# EAGLE library part MCP1404 (library myLib)
8-SOIC MCP1404-E/SN
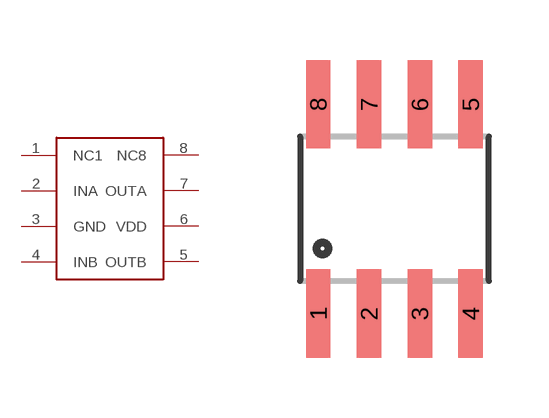
[diagram p3: symbol with the pads of SO08; footprint SO08]

Designator prefix -

## MCP1404  [SO08]
1  NC1
2  INA
3  GND
4  INB
5  OUTB
6  VDD
7  OUTA
8  NC8

## Footprint SO08 (pad centres in mm)
Small Outline Package Fits JEDEC packages (narrow SOIC-8)
smd 0.61 x 2.21: 1 -1.905,-2.616; 2 -0.635,-2.616; 3 0.635,-2.616; 4 1.905,-2.616; 5 1.905,2.616; 6 0.635,2.616; 7 -0.635,2.616; 8 -1.905,2.616